# Altium integrated library Molex Microfit.IntLib: 193 symbols (part 2 of 2)
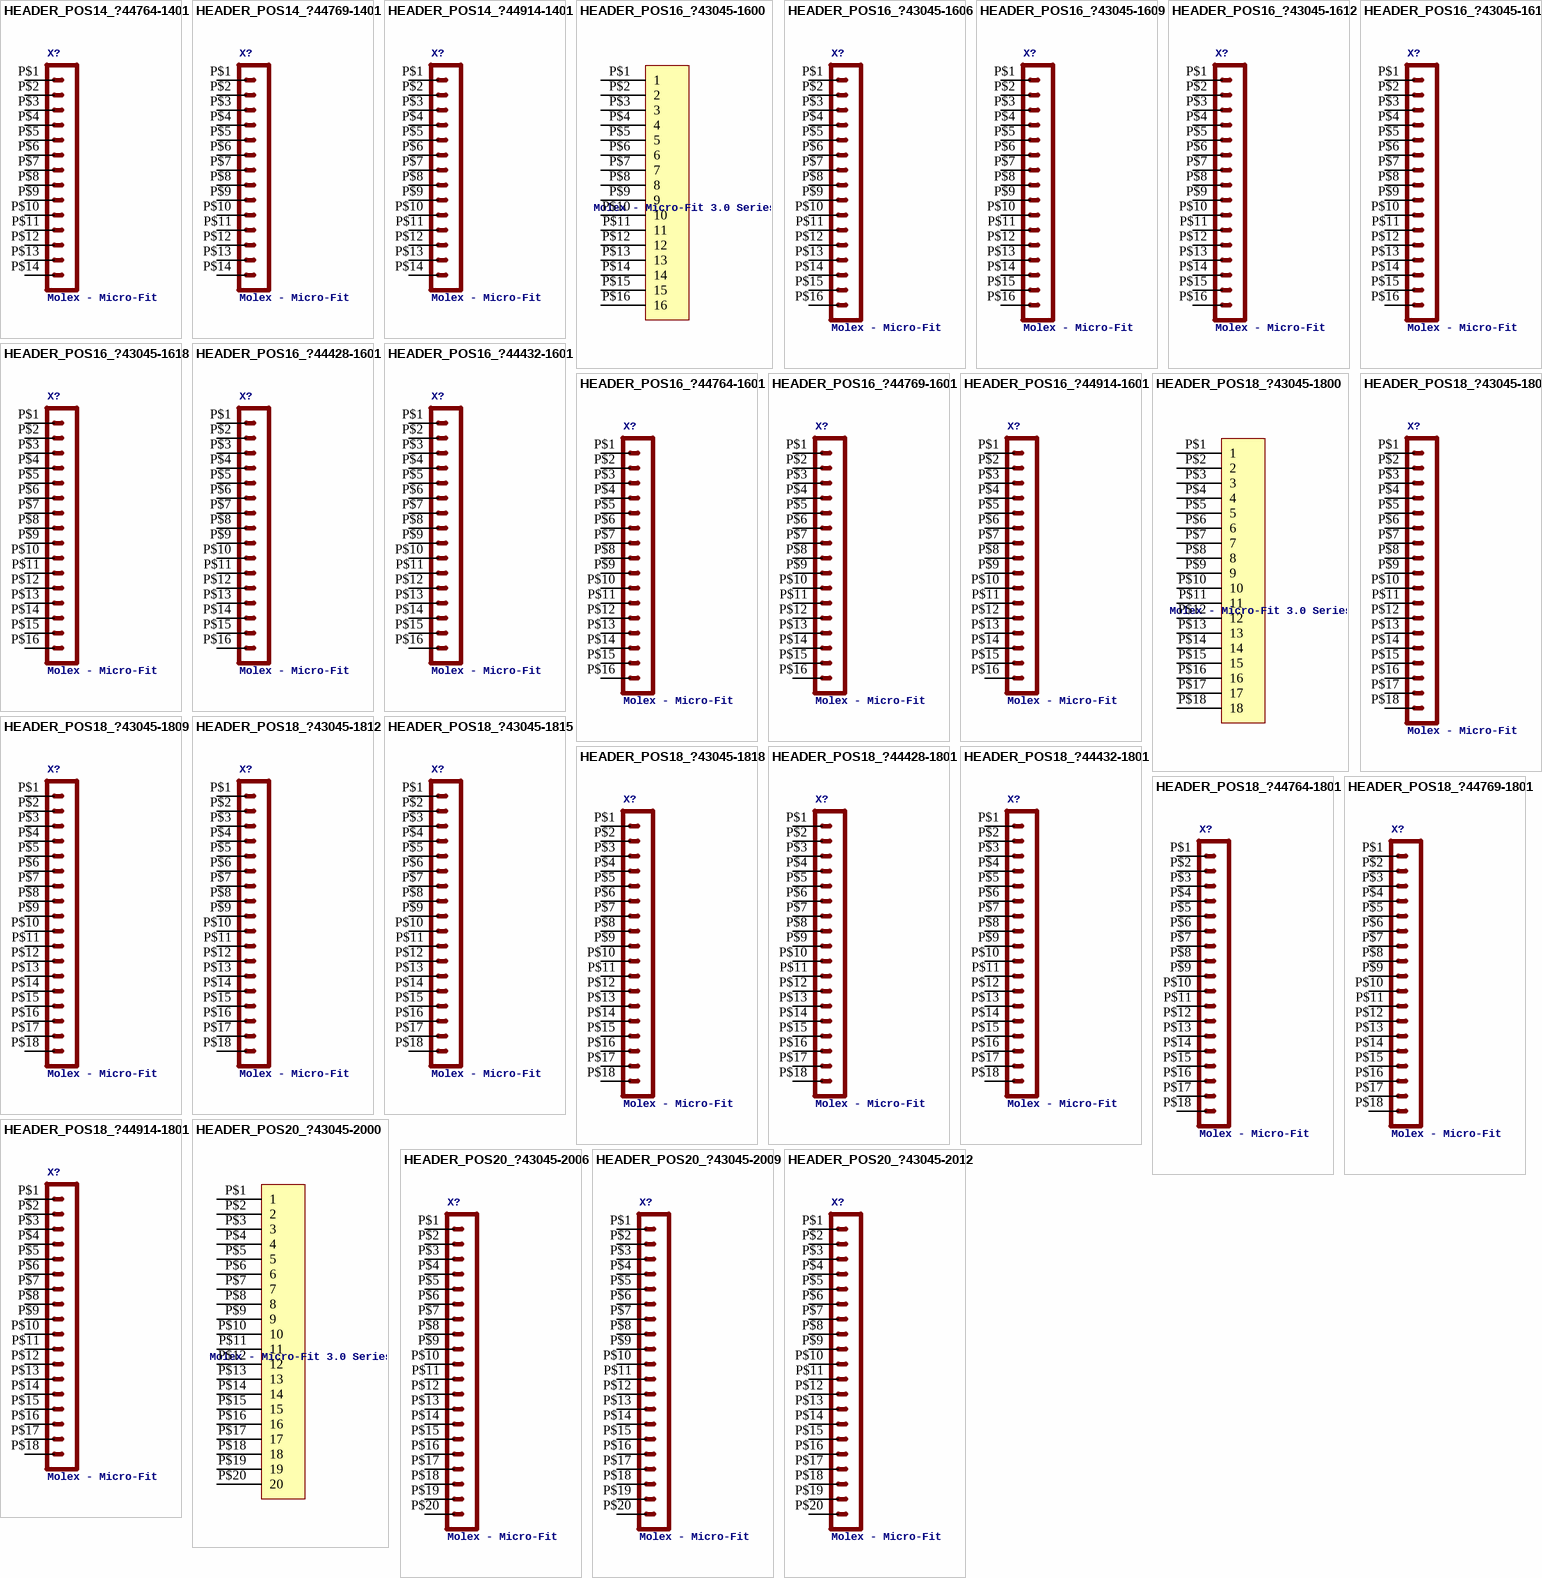
[diagram p6: symbols HEADER_POS14_?44764-1401 to HEADER_POS20_?43045-2012]

## HEADER_POS16_?44428-1601
designator X?, comment Molex - Micro-Fit 3.0 Series connector,  3.00mm (0.118") pitch header, 16 positions.
GateName_1: G$1; SymbolName_1: HEADER_POS16; DeviceName: 44428-1601; DeviceSetName: HEADER_POS16_?; LibraryName: con-molex-micro-fit-3_0_2; Package: 44428-1601
footprint 44428-1601
pins: P$1 1, P$2 2, P$3 3, P$4 4, P$5 5, P$6 6, P$7 7, P$8 8, P$9 9, P$10 10, P$11 11, P$12 12, P$13 13, P$14 14, P$15 15, P$16 16

## HEADER_POS16_?44432-1601
designator X?, comment Molex - Micro-Fit 3.0 Series connector,  3.00mm (0.118") pitch header, 16 positions.
GateName_1: G$1; SymbolName_1: HEADER_POS16; DeviceName: 44432-1601; DeviceSetName: HEADER_POS16_?; LibraryName: con-molex-micro-fit-3_0_2; Package: 44432-1601
footprint 44432-1601
pins: P$1 1, P$2 2, P$3 3, P$4 4, P$5 5, P$6 6, P$7 7, P$8 8, P$9 9, P$10 10, P$11 11, P$12 12, P$13 13, P$14 14, P$15 15, P$16 16

## HEADER_POS16_?44764-1601
designator X?, comment Molex - Micro-Fit 3.0 Series connector,  3.00mm (0.118") pitch header, 16 positions.
GateName_1: G$1; SymbolName_1: HEADER_POS16; DeviceName: 44764-1601; DeviceSetName: HEADER_POS16_?; LibraryName: con-molex-micro-fit-3_0_2; Package: 44764-1601
footprint 44764-1601
pins: P$1 1, P$2 2, P$3 3, P$4 4, P$5 5, P$6 6, P$7 7, P$8 8, P$9 9, P$10 10, P$11 11, P$12 12, P$13 13, P$14 14, P$15 15, P$16 16

## HEADER_POS16_?44769-1601
designator X?, comment Molex - Micro-Fit 3.0 Series connector,  3.00mm (0.118") pitch header, 16 positions.
GateName_1: G$1; SymbolName_1: HEADER_POS16; DeviceName: 44769-1601; DeviceSetName: HEADER_POS16_?; LibraryName: con-molex-micro-fit-3_0_2; Package: 44769-1601
footprint 44769-1601
pins: P$1 1, P$2 2, P$3 3, P$4 4, P$5 5, P$6 6, P$7 7, P$8 8, P$9 9, P$10 10, P$11 11, P$12 12, P$13 13, P$14 14, P$15 15, P$16 16

## HEADER_POS16_?44914-1601
designator X?, comment Molex - Micro-Fit 3.0 Series connector,  3.00mm (0.118") pitch header, 16 positions.
GateName_1: G$1; SymbolName_1: HEADER_POS16; DeviceName: 44914-1601; DeviceSetName: HEADER_POS16_?; LibraryName: con-molex-micro-fit-3_0_2; Package: 44914-1601
footprint 44914-1601
pins: P$1 1, P$2 2, P$3 3, P$4 4, P$5 5, P$6 6, P$7 7, P$8 8, P$9 9, P$10 10, P$11 11, P$12 12, P$13 13, P$14 14, P$15 15, P$16 16

## HEADER_POS18_?43045-1800
designator X?, comment Molex - Micro-Fit 3.0 Series connector,  3.00mm (0.118") pitch header, 18 positions.
GateName_1: G$1; SymbolName_1: HEADER_POS18; DeviceName: 43045-1800; DeviceSetName: HEADER_POS18_?; LibraryName: con-molex-micro-fit-3_0_2; Package: 43045-1800
footprint 43045-1800
pins: P$1 1, P$2 2, P$3 3, P$4 4, P$5 5, P$6 6, P$7 7, P$8 8, P$9 9, P$10 10, P$11 11, P$12 12, P$13 13, P$14 14, P$15 15, P$16 16, P$17 17, P$18 18

## HEADER_POS18_?43045-1806
designator X?, comment Molex - Micro-Fit 3.0 Series connector,  3.00mm (0.118") pitch header, 18 positions.
GateName_1: G$1; SymbolName_1: HEADER_POS18; DeviceName: 43045-1806; DeviceSetName: HEADER_POS18_?; LibraryName: con-molex-micro-fit-3_0_2; Package: 43045-1806
footprint 43045-1806
pins: P$1 1, P$2 2, P$3 3, P$4 4, P$5 5, P$6 6, P$7 7, P$8 8, P$9 9, P$10 10, P$11 11, P$12 12, P$13 13, P$14 14, P$15 15, P$16 16, P$17 17, P$18 18

## HEADER_POS18_?43045-1809
designator X?, comment Molex - Micro-Fit 3.0 Series connector,  3.00mm (0.118") pitch header, 18 positions.
GateName_1: G$1; SymbolName_1: HEADER_POS18; DeviceName: 43045-1809; DeviceSetName: HEADER_POS18_?; LibraryName: con-molex-micro-fit-3_0_2; Package: 43045-1809
footprint 43045-1809
pins: P$1 1, P$2 2, P$3 3, P$4 4, P$5 5, P$6 6, P$7 7, P$8 8, P$9 9, P$10 10, P$11 11, P$12 12, P$13 13, P$14 14, P$15 15, P$16 16, P$17 17, P$18 18

## HEADER_POS18_?43045-1812
designator X?, comment Molex - Micro-Fit 3.0 Series connector,  3.00mm (0.118") pitch header, 18 positions.
GateName_1: G$1; SymbolName_1: HEADER_POS18; DeviceName: 43045-1812; DeviceSetName: HEADER_POS18_?; LibraryName: con-molex-micro-fit-3_0_2; Package: 43045-1812
footprint 43045-1812
pins: P$1 1, P$2 2, P$3 3, P$4 4, P$5 5, P$6 6, P$7 7, P$8 8, P$9 9, P$10 10, P$11 11, P$12 12, P$13 13, P$14 14, P$15 15, P$16 16, P$17 17, P$18 18

## HEADER_POS18_?43045-1815
designator X?, comment Molex - Micro-Fit 3.0 Series connector,  3.00mm (0.118") pitch header, 18 positions.
GateName_1: G$1; SymbolName_1: HEADER_POS18; DeviceName: 43045-1815; DeviceSetName: HEADER_POS18_?; LibraryName: con-molex-micro-fit-3_0_2; Package: 43045-1815
footprint 43045-1815
pins: P$1 1, P$2 2, P$3 3, P$4 4, P$5 5, P$6 6, P$7 7, P$8 8, P$9 9, P$10 10, P$11 11, P$12 12, P$13 13, P$14 14, P$15 15, P$16 16, P$17 17, P$18 18

## HEADER_POS18_?43045-1818
designator X?, comment Molex - Micro-Fit 3.0 Series connector,  3.00mm (0.118") pitch header, 18 positions.
GateName_1: G$1; SymbolName_1: HEADER_POS18; DeviceName: 43045-1818; DeviceSetName: HEADER_POS18_?; LibraryName: con-molex-micro-fit-3_0_2; Package: 43045-1818
footprint 43045-1818
pins: P$1 1, P$2 2, P$3 3, P$4 4, P$5 5, P$6 6, P$7 7, P$8 8, P$9 9, P$10 10, P$11 11, P$12 12, P$13 13, P$14 14, P$15 15, P$16 16, P$17 17, P$18 18

## HEADER_POS18_?44428-1801
designator X?, comment Molex - Micro-Fit 3.0 Series connector,  3.00mm (0.118") pitch header, 18 positions.
GateName_1: G$1; SymbolName_1: HEADER_POS18; DeviceName: 44428-1801; DeviceSetName: HEADER_POS18_?; LibraryName: con-molex-micro-fit-3_0_2; Package: 44428-1801
footprint 44428-1801
pins: P$1 1, P$2 2, P$3 3, P$4 4, P$5 5, P$6 6, P$7 7, P$8 8, P$9 9, P$10 10, P$11 11, P$12 12, P$13 13, P$14 14, P$15 15, P$16 16, P$17 17, P$18 18

## HEADER_POS18_?44432-1801
designator X?, comment Molex - Micro-Fit 3.0 Series connector,  3.00mm (0.118") pitch header, 18 positions.
GateName_1: G$1; SymbolName_1: HEADER_POS18; DeviceName: 44432-1801; DeviceSetName: HEADER_POS18_?; LibraryName: con-molex-micro-fit-3_0_2; Package: 44432-1801
footprint 44432-1801
pins: P$1 1, P$2 2, P$3 3, P$4 4, P$5 5, P$6 6, P$7 7, P$8 8, P$9 9, P$10 10, P$11 11, P$12 12, P$13 13, P$14 14, P$15 15, P$16 16, P$17 17, P$18 18

## HEADER_POS18_?44764-1801
designator X?, comment Molex - Micro-Fit 3.0 Series connector,  3.00mm (0.118") pitch header, 18 positions.
GateName_1: G$1; SymbolName_1: HEADER_POS18; DeviceName: 44764-1801; DeviceSetName: HEADER_POS18_?; LibraryName: con-molex-micro-fit-3_0_2; Package: 44764-1801
footprint 44764-1801
pins: P$1 1, P$2 2, P$3 3, P$4 4, P$5 5, P$6 6, P$7 7, P$8 8, P$9 9, P$10 10, P$11 11, P$12 12, P$13 13, P$14 14, P$15 15, P$16 16, P$17 17, P$18 18

## HEADER_POS18_?44769-1801
designator X?, comment Molex - Micro-Fit 3.0 Series connector,  3.00mm (0.118") pitch header, 18 positions.
GateName_1: G$1; SymbolName_1: HEADER_POS18; DeviceName: 44769-1801; DeviceSetName: HEADER_POS18_?; LibraryName: con-molex-micro-fit-3_0_2; Package: 44769-1801
footprint 44769-1801
pins: P$1 1, P$2 2, P$3 3, P$4 4, P$5 5, P$6 6, P$7 7, P$8 8, P$9 9, P$10 10, P$11 11, P$12 12, P$13 13, P$14 14, P$15 15, P$16 16, P$17 17, P$18 18

## HEADER_POS18_?44914-1801
designator X?, comment Molex - Micro-Fit 3.0 Series connector,  3.00mm (0.118") pitch header, 18 positions.
GateName_1: G$1; SymbolName_1: HEADER_POS18; DeviceName: 44914-1801; DeviceSetName: HEADER_POS18_?; LibraryName: con-molex-micro-fit-3_0_2; Package: 44914-1801
footprint 44914-1801
pins: P$1 1, P$2 2, P$3 3, P$4 4, P$5 5, P$6 6, P$7 7, P$8 8, P$9 9, P$10 10, P$11 11, P$12 12, P$13 13, P$14 14, P$15 15, P$16 16, P$17 17, P$18 18

## HEADER_POS20_?43045-2000
designator X?, comment Molex - Micro-Fit 3.0 Series connector,  3.00mm (0.118") pitch header, 20 positions.
GateName_1: G$1; SymbolName_1: HEADER_POS20; DeviceName: 43045-2000; DeviceSetName: HEADER_POS20_?; LibraryName: con-molex-micro-fit-3_0_2; Package: 43045-2000
footprint 43045-2000
pins: P$1 1, P$2 2, P$3 3, P$4 4, P$5 5, P$6 6, P$7 7, P$8 8, P$9 9, P$10 10, P$11 11, P$12 12, P$13 13, P$14 14, P$15 15, P$16 16, P$17 17, P$18 18, P$19 19, P$20 20

## HEADER_POS20_?43045-2006
designator X?, comment Molex - Micro-Fit 3.0 Series connector,  3.00mm (0.118") pitch header, 20 positions.
GateName_1: G$1; SymbolName_1: HEADER_POS20; DeviceName: 43045-2006; DeviceSetName: HEADER_POS20_?; LibraryName: con-molex-micro-fit-3_0_2; Package: 43045-2006
footprint 43045-2006
pins: P$1 1, P$2 2, P$3 3, P$4 4, P$5 5, P$6 6, P$7 7, P$8 8, P$9 9, P$10 10, P$11 11, P$12 12, P$13 13, P$14 14, P$15 15, P$16 16, P$17 17, P$18 18, P$19 19, P$20 20

## HEADER_POS20_?43045-2009
designator X?, comment Molex - Micro-Fit 3.0 Series connector,  3.00mm (0.118") pitch header, 20 positions.
GateName_1: G$1; SymbolName_1: HEADER_POS20; DeviceName: 43045-2009; DeviceSetName: HEADER_POS20_?; LibraryName: con-molex-micro-fit-3_0_2; Package: 43045-2009
footprint 43045-2009
pins: P$1 1, P$2 2, P$3 3, P$4 4, P$5 5, P$6 6, P$7 7, P$8 8, P$9 9, P$10 10, P$11 11, P$12 12, P$13 13, P$14 14, P$15 15, P$16 16, P$17 17, P$18 18, P$19 19, P$20 20

## HEADER_POS20_?43045-2012
designator X?, comment Molex - Micro-Fit 3.0 Series connector,  3.00mm (0.118") pitch header, 20 positions.
GateName_1: G$1; SymbolName_1: HEADER_POS20; DeviceName: 43045-2012; DeviceSetName: HEADER_POS20_?; LibraryName: con-molex-micro-fit-3_0_2; Package: 43045-2012
footprint 43045-2012
pins: P$1 1, P$2 2, P$3 3, P$4 4, P$5 5, P$6 6, P$7 7, P$8 8, P$9 9, P$10 10, P$11 11, P$12 12, P$13 13, P$14 14, P$15 15, P$16 16, P$17 17, P$18 18, P$19 19, P$20 20

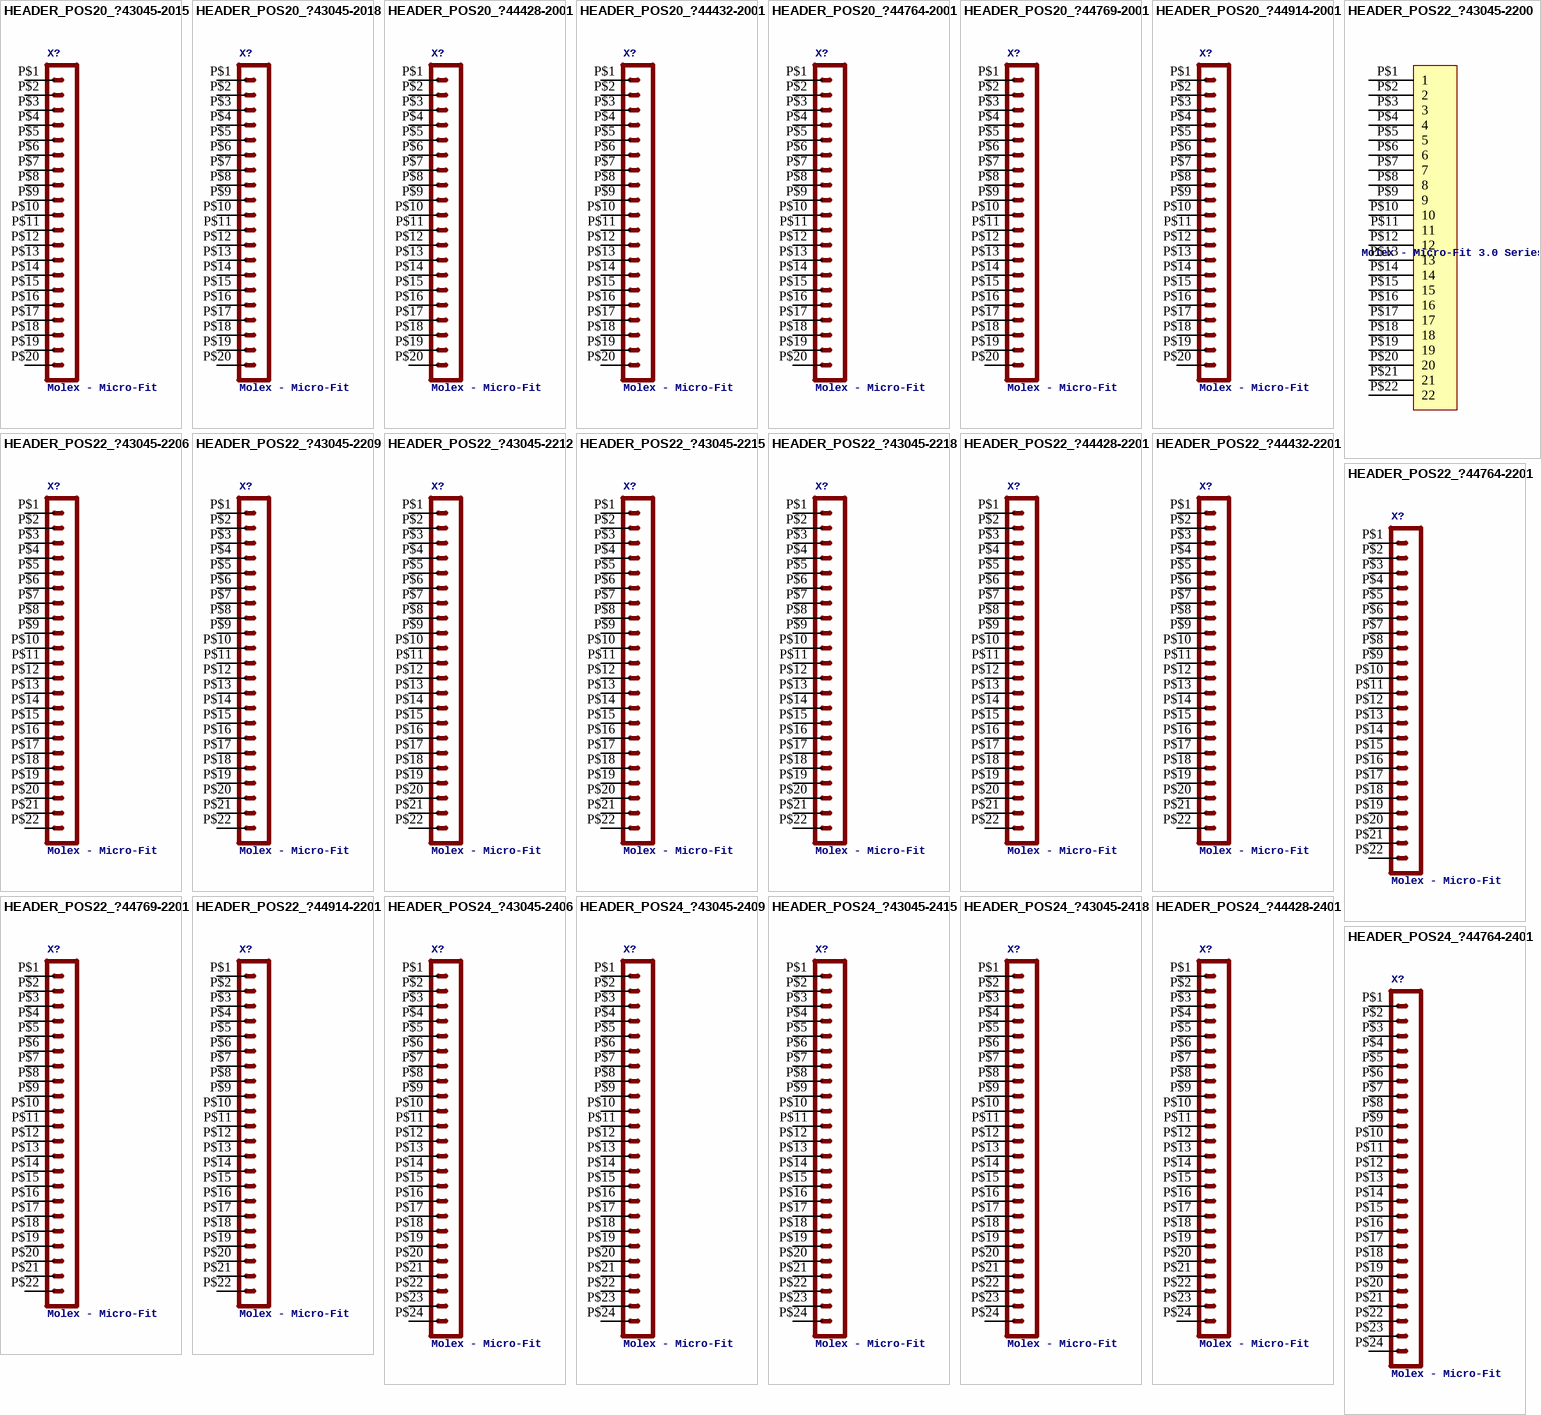
[diagram p4: symbols HEADER_POS20_?43045-2015 to HEADER_POS24_?44764-2401]

## HEADER_POS20_?43045-2015
designator X?, comment Molex - Micro-Fit 3.0 Series connector,  3.00mm (0.118") pitch header, 20 positions.
GateName_1: G$1; SymbolName_1: HEADER_POS20; DeviceName: 43045-2015; DeviceSetName: HEADER_POS20_?; LibraryName: con-molex-micro-fit-3_0_2; Package: 43045-2015
footprint 43045-2015
pins: P$1 1, P$2 2, P$3 3, P$4 4, P$5 5, P$6 6, P$7 7, P$8 8, P$9 9, P$10 10, P$11 11, P$12 12, P$13 13, P$14 14, P$15 15, P$16 16, P$17 17, P$18 18, P$19 19, P$20 20

## HEADER_POS20_?43045-2018
designator X?, comment Molex - Micro-Fit 3.0 Series connector,  3.00mm (0.118") pitch header, 20 positions.
GateName_1: G$1; SymbolName_1: HEADER_POS20; DeviceName: 43045-2018; DeviceSetName: HEADER_POS20_?; LibraryName: con-molex-micro-fit-3_0_2; Package: 43045-2018
footprint 43045-2018
pins: P$1 1, P$2 2, P$3 3, P$4 4, P$5 5, P$6 6, P$7 7, P$8 8, P$9 9, P$10 10, P$11 11, P$12 12, P$13 13, P$14 14, P$15 15, P$16 16, P$17 17, P$18 18, P$19 19, P$20 20

## HEADER_POS20_?44428-2001
designator X?, comment Molex - Micro-Fit 3.0 Series connector,  3.00mm (0.118") pitch header, 20 positions.
GateName_1: G$1; SymbolName_1: HEADER_POS20; DeviceName: 44428-2001; DeviceSetName: HEADER_POS20_?; LibraryName: con-molex-micro-fit-3_0_2; Package: 44428-2001
footprint 44428-2001
pins: P$1 1, P$2 2, P$3 3, P$4 4, P$5 5, P$6 6, P$7 7, P$8 8, P$9 9, P$10 10, P$11 11, P$12 12, P$13 13, P$14 14, P$15 15, P$16 16, P$17 17, P$18 18, P$19 19, P$20 20

## HEADER_POS20_?44432-2001
designator X?, comment Molex - Micro-Fit 3.0 Series connector,  3.00mm (0.118") pitch header, 20 positions.
GateName_1: G$1; SymbolName_1: HEADER_POS20; DeviceName: 44432-2001; DeviceSetName: HEADER_POS20_?; LibraryName: con-molex-micro-fit-3_0_2; Package: 44432-2001
footprint 44432-2001
pins: P$1 1, P$2 2, P$3 3, P$4 4, P$5 5, P$6 6, P$7 7, P$8 8, P$9 9, P$10 10, P$11 11, P$12 12, P$13 13, P$14 14, P$15 15, P$16 16, P$17 17, P$18 18, P$19 19, P$20 20

## HEADER_POS20_?44764-2001
designator X?, comment Molex - Micro-Fit 3.0 Series connector,  3.00mm (0.118") pitch header, 20 positions.
GateName_1: G$1; SymbolName_1: HEADER_POS20; DeviceName: 44764-2001; DeviceSetName: HEADER_POS20_?; LibraryName: con-molex-micro-fit-3_0_2; Package: 44764-2001
footprint 44764-2001
pins: P$1 1, P$2 2, P$3 3, P$4 4, P$5 5, P$6 6, P$7 7, P$8 8, P$9 9, P$10 10, P$11 11, P$12 12, P$13 13, P$14 14, P$15 15, P$16 16, P$17 17, P$18 18, P$19 19, P$20 20

## HEADER_POS20_?44769-2001
designator X?, comment Molex - Micro-Fit 3.0 Series connector,  3.00mm (0.118") pitch header, 20 positions.
GateName_1: G$1; SymbolName_1: HEADER_POS20; DeviceName: 44769-2001; DeviceSetName: HEADER_POS20_?; LibraryName: con-molex-micro-fit-3_0_2; Package: 44769-2001
footprint 44769-2001
pins: P$1 1, P$2 2, P$3 3, P$4 4, P$5 5, P$6 6, P$7 7, P$8 8, P$9 9, P$10 10, P$11 11, P$12 12, P$13 13, P$14 14, P$15 15, P$16 16, P$17 17, P$18 18, P$19 19, P$20 20

## HEADER_POS20_?44914-2001
designator X?, comment Molex - Micro-Fit 3.0 Series connector,  3.00mm (0.118") pitch header, 20 positions.
GateName_1: G$1; SymbolName_1: HEADER_POS20; DeviceName: 44914-2001; DeviceSetName: HEADER_POS20_?; LibraryName: con-molex-micro-fit-3_0_2; Package: 44914-2001
footprint 44914-2001
pins: P$1 1, P$2 2, P$3 3, P$4 4, P$5 5, P$6 6, P$7 7, P$8 8, P$9 9, P$10 10, P$11 11, P$12 12, P$13 13, P$14 14, P$15 15, P$16 16, P$17 17, P$18 18, P$19 19, P$20 20

## HEADER_POS22_?43045-2200
designator X?, comment Molex - Micro-Fit 3.0 Series connector,  3.00mm (0.118") pitch header, 22 positions.
GateName_1: G$1; SymbolName_1: HEADER_POS22; DeviceName: 43045-2200; DeviceSetName: HEADER_POS22_?; LibraryName: con-molex-micro-fit-3_0_2; Package: 43045-2200
footprint 43045-2200
pins: P$1 1, P$2 2, P$3 3, P$4 4, P$5 5, P$6 6, P$7 7, P$8 8, P$9 9, P$10 10, P$11 11, P$12 12, P$13 13, P$14 14, P$15 15, P$16 16, P$17 17, P$18 18, P$19 19, P$20 20, P$21 21, P$22 22

## HEADER_POS22_?43045-2206
designator X?, comment Molex - Micro-Fit 3.0 Series connector,  3.00mm (0.118") pitch header, 22 positions.
GateName_1: G$1; SymbolName_1: HEADER_POS22; DeviceName: 43045-2206; DeviceSetName: HEADER_POS22_?; LibraryName: con-molex-micro-fit-3_0_2; Package: 43045-2206
footprint 43045-2206
pins: P$1 1, P$2 2, P$3 3, P$4 4, P$5 5, P$6 6, P$7 7, P$8 8, P$9 9, P$10 10, P$11 11, P$12 12, P$13 13, P$14 14, P$15 15, P$16 16, P$17 17, P$18 18, P$19 19, P$20 20, P$21 21, P$22 22

## HEADER_POS22_?43045-2209
designator X?, comment Molex - Micro-Fit 3.0 Series connector,  3.00mm (0.118") pitch header, 22 positions.
GateName_1: G$1; SymbolName_1: HEADER_POS22; DeviceName: 43045-2209; DeviceSetName: HEADER_POS22_?; LibraryName: con-molex-micro-fit-3_0_2; Package: 43045-2209
footprint 43045-2209
pins: P$1 1, P$2 2, P$3 3, P$4 4, P$5 5, P$6 6, P$7 7, P$8 8, P$9 9, P$10 10, P$11 11, P$12 12, P$13 13, P$14 14, P$15 15, P$16 16, P$17 17, P$18 18, P$19 19, P$20 20, P$21 21, P$22 22

## HEADER_POS22_?43045-2212
designator X?, comment Molex - Micro-Fit 3.0 Series connector,  3.00mm (0.118") pitch header, 22 positions.
GateName_1: G$1; SymbolName_1: HEADER_POS22; DeviceName: 43045-2212; DeviceSetName: HEADER_POS22_?; LibraryName: con-molex-micro-fit-3_0_2; Package: 43045-2212
footprint 43045-2212
pins: P$1 1, P$2 2, P$3 3, P$4 4, P$5 5, P$6 6, P$7 7, P$8 8, P$9 9, P$10 10, P$11 11, P$12 12, P$13 13, P$14 14, P$15 15, P$16 16, P$17 17, P$18 18, P$19 19, P$20 20, P$21 21, P$22 22

## HEADER_POS22_?43045-2215
designator X?, comment Molex - Micro-Fit 3.0 Series connector,  3.00mm (0.118") pitch header, 22 positions.
GateName_1: G$1; SymbolName_1: HEADER_POS22; DeviceName: 43045-2215; DeviceSetName: HEADER_POS22_?; LibraryName: con-molex-micro-fit-3_0_2; Package: 43045-2215
footprint 43045-2215
pins: P$1 1, P$2 2, P$3 3, P$4 4, P$5 5, P$6 6, P$7 7, P$8 8, P$9 9, P$10 10, P$11 11, P$12 12, P$13 13, P$14 14, P$15 15, P$16 16, P$17 17, P$18 18, P$19 19, P$20 20, P$21 21, P$22 22

## HEADER_POS22_?43045-2218
designator X?, comment Molex - Micro-Fit 3.0 Series connector,  3.00mm (0.118") pitch header, 22 positions.
GateName_1: G$1; SymbolName_1: HEADER_POS22; DeviceName: 43045-2218; DeviceSetName: HEADER_POS22_?; LibraryName: con-molex-micro-fit-3_0_2; Package: 43045-2218
footprint 43045-2218
pins: P$1 1, P$2 2, P$3 3, P$4 4, P$5 5, P$6 6, P$7 7, P$8 8, P$9 9, P$10 10, P$11 11, P$12 12, P$13 13, P$14 14, P$15 15, P$16 16, P$17 17, P$18 18, P$19 19, P$20 20, P$21 21, P$22 22

## HEADER_POS22_?44428-2201
designator X?, comment Molex - Micro-Fit 3.0 Series connector,  3.00mm (0.118") pitch header, 22 positions.
GateName_1: G$1; SymbolName_1: HEADER_POS22; DeviceName: 44428-2201; DeviceSetName: HEADER_POS22_?; LibraryName: con-molex-micro-fit-3_0_2; Package: 44428-2201
footprint 44428-2201
pins: P$1 1, P$2 2, P$3 3, P$4 4, P$5 5, P$6 6, P$7 7, P$8 8, P$9 9, P$10 10, P$11 11, P$12 12, P$13 13, P$14 14, P$15 15, P$16 16, P$17 17, P$18 18, P$19 19, P$20 20, P$21 21, P$22 22

## HEADER_POS22_?44432-2201
designator X?, comment Molex - Micro-Fit 3.0 Series connector,  3.00mm (0.118") pitch header, 22 positions.
GateName_1: G$1; SymbolName_1: HEADER_POS22; DeviceName: 44432-2201; DeviceSetName: HEADER_POS22_?; LibraryName: con-molex-micro-fit-3_0_2; Package: 44432-2201
footprint 44432-2201
pins: P$1 1, P$2 2, P$3 3, P$4 4, P$5 5, P$6 6, P$7 7, P$8 8, P$9 9, P$10 10, P$11 11, P$12 12, P$13 13, P$14 14, P$15 15, P$16 16, P$17 17, P$18 18, P$19 19, P$20 20, P$21 21, P$22 22

## HEADER_POS22_?44764-2201
designator X?, comment Molex - Micro-Fit 3.0 Series connector,  3.00mm (0.118") pitch header, 22 positions.
GateName_1: G$1; SymbolName_1: HEADER_POS22; DeviceName: 44764-2201; DeviceSetName: HEADER_POS22_?; LibraryName: con-molex-micro-fit-3_0_2; Package: 44764-2201
footprint 44764-2201
pins: P$1 1, P$2 2, P$3 3, P$4 4, P$5 5, P$6 6, P$7 7, P$8 8, P$9 9, P$10 10, P$11 11, P$12 12, P$13 13, P$14 14, P$15 15, P$16 16, P$17 17, P$18 18, P$19 19, P$20 20, P$21 21, P$22 22

## HEADER_POS22_?44769-2201
designator X?, comment Molex - Micro-Fit 3.0 Series connector,  3.00mm (0.118") pitch header, 22 positions.
GateName_1: G$1; SymbolName_1: HEADER_POS22; DeviceName: 44769-2201; DeviceSetName: HEADER_POS22_?; LibraryName: con-molex-micro-fit-3_0_2; Package: 44769-2201
footprint 44769-2201
pins: P$1 1, P$2 2, P$3 3, P$4 4, P$5 5, P$6 6, P$7 7, P$8 8, P$9 9, P$10 10, P$11 11, P$12 12, P$13 13, P$14 14, P$15 15, P$16 16, P$17 17, P$18 18, P$19 19, P$20 20, P$21 21, P$22 22

## HEADER_POS22_?44914-2201
designator X?, comment Molex - Micro-Fit 3.0 Series connector,  3.00mm (0.118") pitch header, 22 positions.
GateName_1: G$1; SymbolName_1: HEADER_POS22; DeviceName: 44914-2201; DeviceSetName: HEADER_POS22_?; LibraryName: con-molex-micro-fit-3_0_2; Package: 44914-2201
footprint 44914-2201
pins: P$1 1, P$2 2, P$3 3, P$4 4, P$5 5, P$6 6, P$7 7, P$8 8, P$9 9, P$10 10, P$11 11, P$12 12, P$13 13, P$14 14, P$15 15, P$16 16, P$17 17, P$18 18, P$19 19, P$20 20, P$21 21, P$22 22

## HEADER_POS24_?43045-2406
designator X?, comment Molex - Micro-Fit 3.0 Series connector,  3.00mm (0.118") pitch header, 24 positions.
GateName_1: G$1; SymbolName_1: HEADER_POS24; DeviceName: 43045-2406; DeviceSetName: HEADER_POS24_?; LibraryName: con-molex-micro-fit-3_0_2; Package: 43045-2406
footprint 43045-2406
pins: P$1 1, P$2 2, P$3 3, P$4 4, P$5 5, P$6 6, P$7 7, P$8 8, P$9 9, P$10 10, P$11 11, P$12 12, P$13 13, P$14 14, P$15 15, P$16 16, P$17 17, P$18 18, P$19 19, P$20 20, P$21 21, P$22 22, P$23 23, P$24 24

## HEADER_POS24_?43045-2409
designator X?, comment Molex - Micro-Fit 3.0 Series connector,  3.00mm (0.118") pitch header, 24 positions.
GateName_1: G$1; SymbolName_1: HEADER_POS24; DeviceName: 43045-2409; DeviceSetName: HEADER_POS24_?; LibraryName: con-molex-micro-fit-3_0_2; Package: 43045-2409
footprint 43045-2409
pins: P$1 1, P$2 2, P$3 3, P$4 4, P$5 5, P$6 6, P$7 7, P$8 8, P$9 9, P$10 10, P$11 11, P$12 12, P$13 13, P$14 14, P$15 15, P$16 16, P$17 17, P$18 18, P$19 19, P$20 20, P$21 21, P$22 22, P$23 23, P$24 24

## HEADER_POS24_?43045-2415
designator X?, comment Molex - Micro-Fit 3.0 Series connector,  3.00mm (0.118") pitch header, 24 positions.
GateName_1: G$1; SymbolName_1: HEADER_POS24; DeviceName: 43045-2415; DeviceSetName: HEADER_POS24_?; LibraryName: con-molex-micro-fit-3_0_2; Package: 43045-2415
footprint 43045-2415
pins: P$1 1, P$2 2, P$3 3, P$4 4, P$5 5, P$6 6, P$7 7, P$8 8, P$9 9, P$10 10, P$11 11, P$12 12, P$13 13, P$14 14, P$15 15, P$16 16, P$17 17, P$18 18, P$19 19, P$20 20, P$21 21, P$22 22, P$23 23, P$24 24

## HEADER_POS24_?43045-2418
designator X?, comment Molex - Micro-Fit 3.0 Series connector,  3.00mm (0.118") pitch header, 24 positions.
GateName_1: G$1; SymbolName_1: HEADER_POS24; DeviceName: 43045-2418; DeviceSetName: HEADER_POS24_?; LibraryName: con-molex-micro-fit-3_0_2; Package: 43045-2418
footprint 43045-2418
pins: P$1 1, P$2 2, P$3 3, P$4 4, P$5 5, P$6 6, P$7 7, P$8 8, P$9 9, P$10 10, P$11 11, P$12 12, P$13 13, P$14 14, P$15 15, P$16 16, P$17 17, P$18 18, P$19 19, P$20 20, P$21 21, P$22 22, P$23 23, P$24 24

## HEADER_POS24_?44428-2401
designator X?, comment Molex - Micro-Fit 3.0 Series connector,  3.00mm (0.118") pitch header, 24 positions.
GateName_1: G$1; SymbolName_1: HEADER_POS24; DeviceName: 44428-2401; DeviceSetName: HEADER_POS24_?; LibraryName: con-molex-micro-fit-3_0_2; Package: 44428-2401
footprint 44428-2401
pins: P$1 1, P$2 2, P$3 3, P$4 4, P$5 5, P$6 6, P$7 7, P$8 8, P$9 9, P$10 10, P$11 11, P$12 12, P$13 13, P$14 14, P$15 15, P$16 16, P$17 17, P$18 18, P$19 19, P$20 20, P$21 21, P$22 22, P$23 23, P$24 24

## HEADER_POS24_?44764-2401
designator X?, comment Molex - Micro-Fit 3.0 Series connector,  3.00mm (0.118") pitch header, 24 positions.
GateName_1: G$1; SymbolName_1: HEADER_POS24; DeviceName: 44764-2401; DeviceSetName: HEADER_POS24_?; LibraryName: con-molex-micro-fit-3_0_2; Package: 44764-2401
footprint 44764-2401
pins: P$1 1, P$2 2, P$3 3, P$4 4, P$5 5, P$6 6, P$7 7, P$8 8, P$9 9, P$10 10, P$11 11, P$12 12, P$13 13, P$14 14, P$15 15, P$16 16, P$17 17, P$18 18, P$19 19, P$20 20, P$21 21, P$22 22, P$23 23, P$24 24

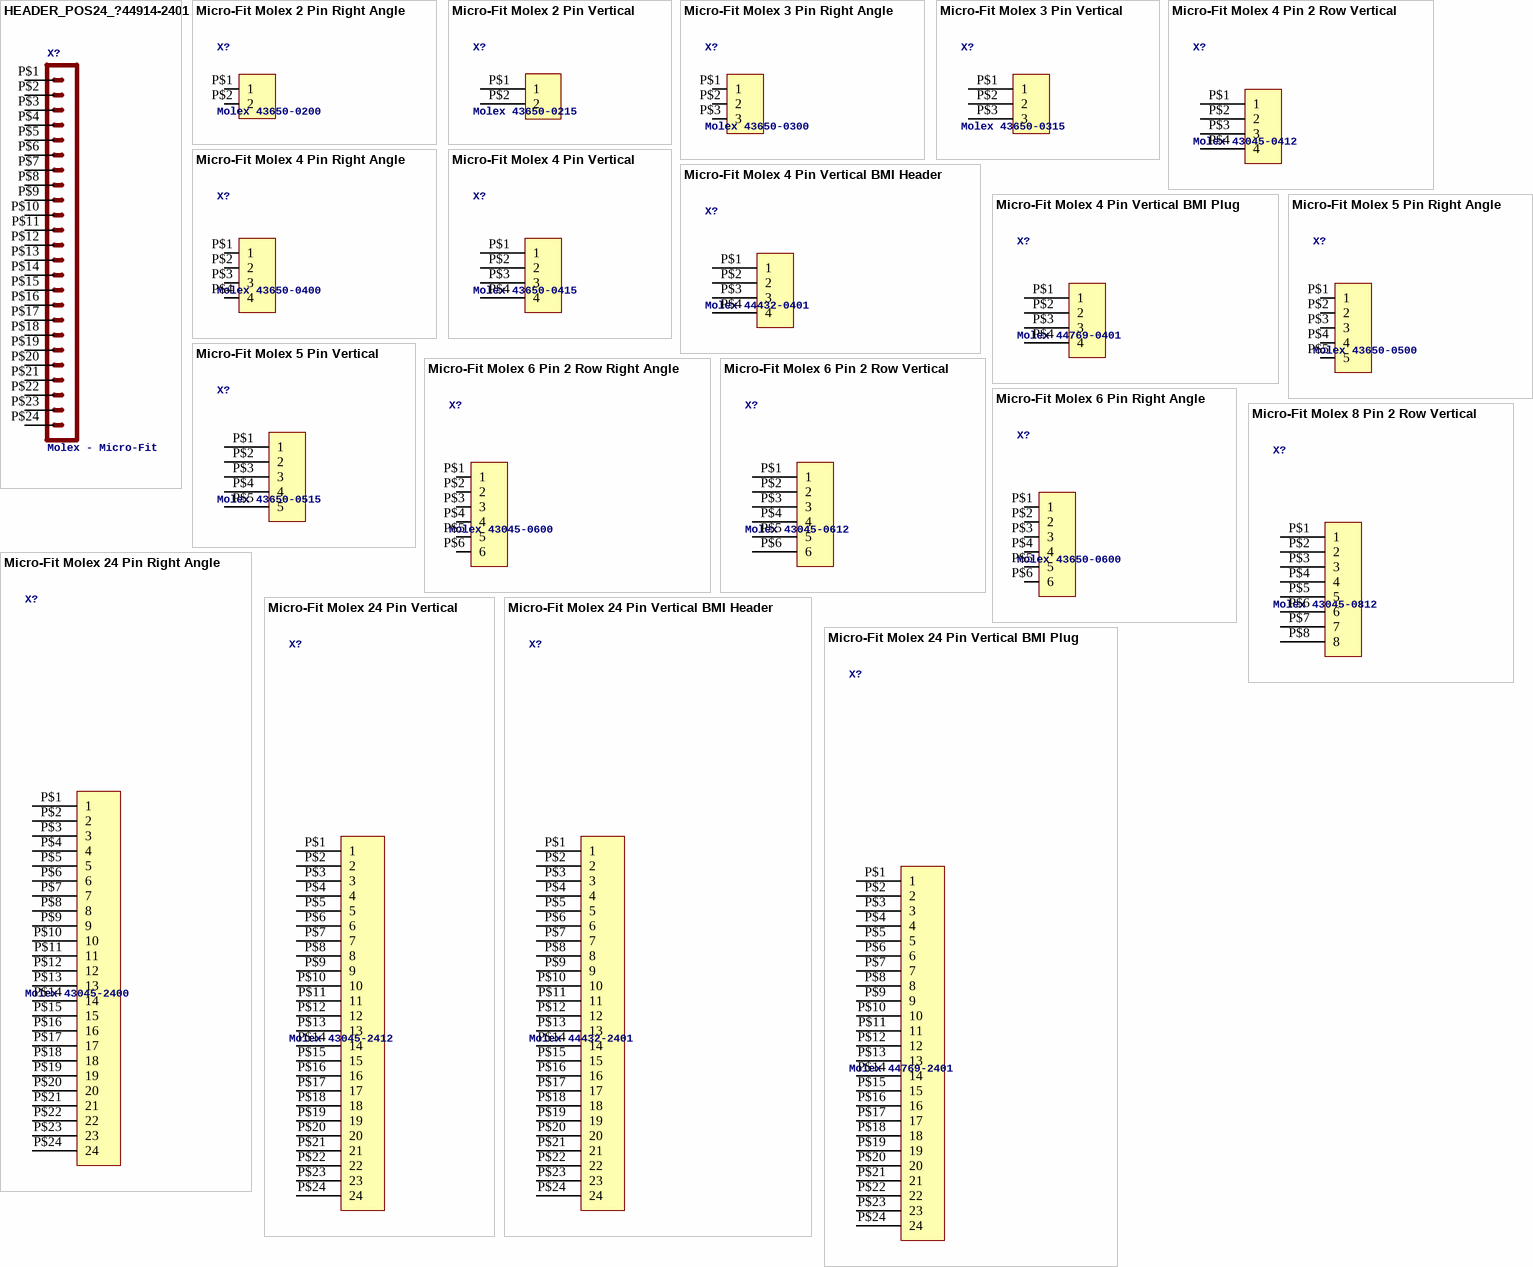
[diagram p5: symbols HEADER_POS24_?44914-2401 to Micro-Fit Molex 24 Pin Vertical BMI Plug]

## HEADER_POS24_?44914-2401
designator X?, comment Molex - Micro-Fit 3.0 Series connector,  3.00mm (0.118") pitch header, 24 positions.
GateName_1: G$1; SymbolName_1: HEADER_POS24; DeviceName: 44914-2401; DeviceSetName: HEADER_POS24_?; LibraryName: con-molex-micro-fit-3_0_2; Package: 44914-2401
footprint 44914-2401
pins: P$1 1, P$2 2, P$3 3, P$4 4, P$5 5, P$6 6, P$7 7, P$8 8, P$9 9, P$10 10, P$11 11, P$12 12, P$13 13, P$14 14, P$15 15, P$16 16, P$17 17, P$18 18, P$19 19, P$20 20, P$21 21, P$22 22, P$23 23, P$24 24

## Micro-Fit Molex 2 Pin Right Angle
designator X?, comment Molex 43650-0200
GateName_1: G$1; SymbolName_1: HEADER_POS2; DeviceSetName: HEADER_POS2_?; DeviceName: 43650-0200; LibraryName: con-molex-micro-fit-3_0_2; Package: 43650-0200
footprint 43650-0200
pins: P$1 1, P$2 2

## Micro-Fit Molex 2 Pin Vertical
designator X?, comment Molex 43650-0215
GateName_1: G$1; SymbolName_1: HEADER_POS2; DeviceSetName: HEADER_POS2_?; DeviceName: 43650-0215; LibraryName: con-molex-micro-fit-3_0_2; Package: 43650-0215
footprint 43650-0215
pins: P$1 1, P$2 2

## Micro-Fit Molex 3 Pin Right Angle
designator X?, comment Molex 43650-0300
GateName_1: G$1; SymbolName_1: HEADER_POS3; DeviceSetName: HEADER_POS3_?; DeviceName: 43650-0300; LibraryName: con-molex-micro-fit-3_0_2; Package: 43650-0300
footprint 43650-0300
pins: P$1 1, P$2 2, P$3 3

## Micro-Fit Molex 3 Pin Vertical
designator X?, comment Molex 43650-0315
GateName_1: G$1; SymbolName_1: HEADER_POS3; DeviceSetName: HEADER_POS3_?; DeviceName: 43650-0315; LibraryName: con-molex-micro-fit-3_0_2; Package: 43650-0315
footprint 43650-0315
pins: P$1 1, P$2 2, P$3 3

## Micro-Fit Molex 4 Pin 2 Row Vertical
designator X?, comment Molex 43045-0412
GateName_1: G$1; SymbolName_1: HEADER_POS4; DeviceSetName: HEADER_POS4_?; DeviceName: 43045-0412; LibraryName: con-molex-micro-fit-3_0_2; Package: 43045-0412
footprint 43045-0412
pins: P$1 1, P$2 2, P$3 3, P$4 4

## Micro-Fit Molex 4 Pin Right Angle
designator X?, comment Molex 43650-0400
GateName_1: G$1; SymbolName_1: HEADER_POS4; DeviceSetName: HEADER_POS4_?; DeviceName: 43650-0400; LibraryName: con-molex-micro-fit-3_0_2; Package: 43650-0400
footprint 43650-0400
pins: P$1 1, P$2 2, P$3 3, P$4 4

## Micro-Fit Molex 4 Pin Vertical
designator X?, comment Molex 43650-0415
GateName_1: G$1; SymbolName_1: HEADER_POS4; DeviceSetName: HEADER_POS4_?; DeviceName: 43650-0415; LibraryName: con-molex-micro-fit-3_0_2; Package: 43650-0415
footprint 43650-0415
pins: P$1 1, P$2 2, P$3 3, P$4 4

## Micro-Fit Molex 4 Pin Vertical BMI Header
designator X?, comment Molex 44432-0401
GateName_1: G$1; SymbolName_1: HEADER_POS4; DeviceSetName: HEADER_POS4_?; DeviceName: 44432-0401; LibraryName: con-molex-micro-fit-3_0_2; Package: 44432-0401
footprint 44432-0401
pins: P$1 1, P$2 2, P$3 3, P$4 4

## Micro-Fit Molex 4 Pin Vertical BMI Plug
designator X?, comment Molex 44769-0401
GateName_1: G$1; SymbolName_1: HEADER_POS4; DeviceSetName: HEADER_POS4_?; DeviceName: 44769-0401; LibraryName: con-molex-micro-fit-3_0_2; Package: 44769-0401
footprint 44769-0401
pins: P$1 1, P$2 2, P$3 3, P$4 4

## Micro-Fit Molex 5 Pin Right Angle
designator X?, comment Molex 43650-0500
GateName_1: G$1; SymbolName_1: HEADER_POS5; DeviceSetName: HEADER_POS5_?; DeviceName: 43650-0500; LibraryName: con-molex-micro-fit-3_0_2; Package: 43650-0500
footprint 43650-0500
pins: P$1 1, P$2 2, P$3 3, P$4 4, P$5 5

## Micro-Fit Molex 5 Pin Vertical
designator X?, comment Molex 43650-0515
GateName_1: G$1; SymbolName_1: HEADER_POS5; DeviceSetName: HEADER_POS5_?; DeviceName: 43650-0515; LibraryName: con-molex-micro-fit-3_0_2; Package: 43650-0515
footprint 43650-0515
pins: P$1 1, P$2 2, P$3 3, P$4 4, P$5 5

## Micro-Fit Molex 6 Pin 2 Row Right Angle
designator X?, comment Molex 43045-0600
GateName_1: G$1; SymbolName_1: HEADER_POS6; DeviceSetName: HEADER_POS6_?; DeviceName: 43045-0600; LibraryName: con-molex-micro-fit-3_0_2; Package: 43045-0600
footprint 43045-0600
pins: P$1 1, P$2 2, P$3 3, P$4 4, P$5 5, P$6 6

## Micro-Fit Molex 6 Pin 2 Row Vertical
designator X?, comment Molex 43045-0612
GateName_1: G$1; SymbolName_1: HEADER_POS6; DeviceSetName: HEADER_POS6_?; DeviceName: 43045-0612; LibraryName: con-molex-micro-fit-3_0_2; Package: 43045-0612
footprint 43045-0612
pins: P$1 1, P$2 2, P$3 3, P$4 4, P$5 5, P$6 6

## Micro-Fit Molex 6 Pin Right Angle
designator X?, comment Molex 43650-0600
GateName_1: G$1; SymbolName_1: HEADER_POS6; DeviceSetName: HEADER_POS6_?; DeviceName: 43650-0600; LibraryName: con-molex-micro-fit-3_0_2; Package: 43650-0600
footprint 43650-0600
pins: P$1 1, P$2 2, P$3 3, P$4 4, P$5 5, P$6 6

## Micro-Fit Molex 8 Pin 2 Row Vertical
designator X?, comment Molex 43045-0812
GateName_1: G$1; SymbolName_1: HEADER_POS8; DeviceSetName: HEADER_POS8_?; DeviceName: 43045-0812; LibraryName: con-molex-micro-fit-3_0_2; Package: 43045-0812
footprint 43045-0812
pins: P$1 1, P$2 2, P$3 3, P$4 4, P$5 5, P$6 6, P$7 7, P$8 8

## Micro-Fit Molex 24 Pin Right Angle
designator X?, comment Molex 43045-2400
GateName_1: G$1; SymbolName_1: HEADER_POS24; DeviceSetName: HEADER_POS24_?; DeviceName: 43045-2400; LibraryName: con-molex-micro-fit-3_0_2; Package: 43045-2400
footprint 43045-2400
pins: P$1 1, P$2 2, P$3 3, P$4 4, P$5 5, P$6 6, P$7 7, P$8 8, P$9 9, P$10 10, P$11 11, P$12 12, P$13 13, P$14 14, P$15 15, P$16 16, P$17 17, P$18 18, P$19 19, P$20 20, P$21 21, P$22 22, P$23 23, P$24 24

## Micro-Fit Molex 24 Pin Vertical
designator X?, comment Molex 43045-2412
GateName_1: G$1; SymbolName_1: HEADER_POS24; DeviceSetName: HEADER_POS24_?; DeviceName: 43045-2412; LibraryName: con-molex-micro-fit-3_0_2; Package: 43045-2412
footprint 43045-2412
pins: P$1 1, P$2 2, P$3 3, P$4 4, P$5 5, P$6 6, P$7 7, P$8 8, P$9 9, P$10 10, P$11 11, P$12 12, P$13 13, P$14 14, P$15 15, P$16 16, P$17 17, P$18 18, P$19 19, P$20 20, P$21 21, P$22 22, P$23 23, P$24 24

## Micro-Fit Molex 24 Pin Vertical BMI Header
designator X?, comment Molex 44432-2401
GateName_1: G$1; SymbolName_1: HEADER_POS24; DeviceSetName: HEADER_POS24_?; DeviceName: 44432-2401; LibraryName: con-molex-micro-fit-3_0_2; Package: 44432-2401
footprint 44432-2401
pins: P$1 1, P$2 2, P$3 3, P$4 4, P$5 5, P$6 6, P$7 7, P$8 8, P$9 9, P$10 10, P$11 11, P$12 12, P$13 13, P$14 14, P$15 15, P$16 16, P$17 17, P$18 18, P$19 19, P$20 20, P$21 21, P$22 22, P$23 23, P$24 24

## Micro-Fit Molex 24 Pin Vertical BMI Plug
designator X?, comment Molex 44769-2401
GateName_1: G$1; SymbolName_1: HEADER_POS24; DeviceSetName: HEADER_POS24_?; DeviceName: 44769-2401; LibraryName: con-molex-micro-fit-3_0_2; Package: 44769-2401
footprint 44769-2401
pins: P$1 1, P$2 2, P$3 3, P$4 4, P$5 5, P$6 6, P$7 7, P$8 8, P$9 9, P$10 10, P$11 11, P$12 12, P$13 13, P$14 14, P$15 15, P$16 16, P$17 17, P$18 18, P$19 19, P$20 20, P$21 21, P$22 22, P$23 23, P$24 24